# Altium footprint library Analog IC.PcbLib: 26 footprints (part 2 of 2)
Each footprint in its own frame and in the unit in brackets; x right, y up, seen from the top. Pads: shape width x height; smd on the part's side, far side on the other; paste and mask are expansions set on the pad; w line width, h text height; cw(c..) or ccw(c..) is an arc to the next point about the centre after c.
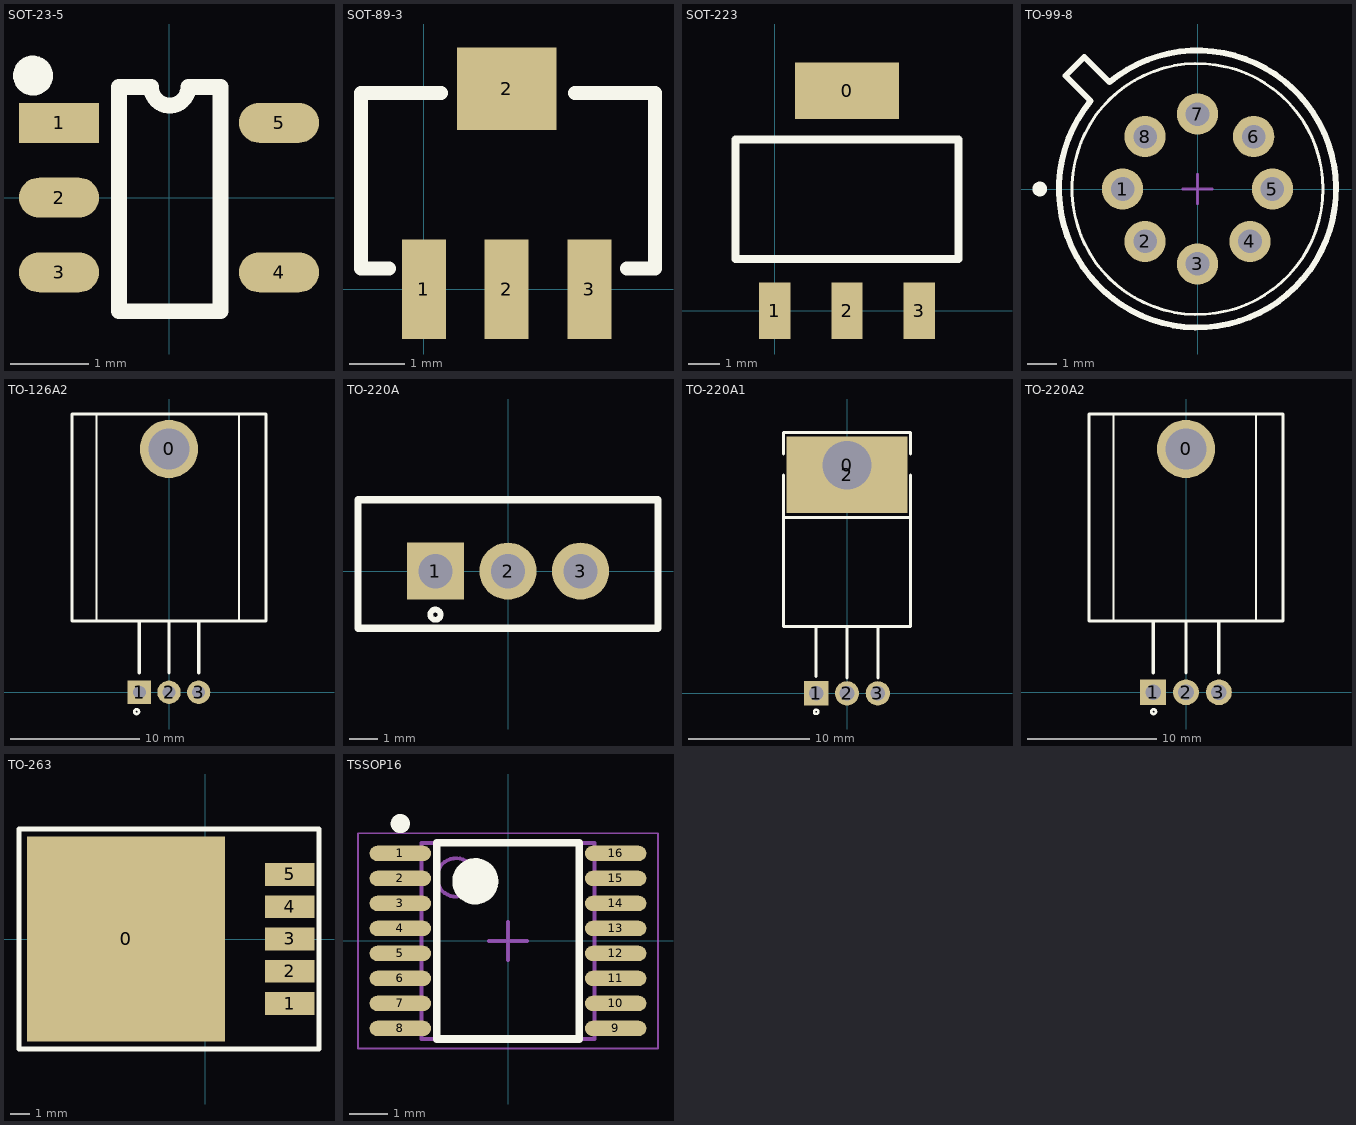
[diagram p1: the footprints below, top view; thin cyan lines are the x and y axes]

## SOT-23-5 [mil]
pads (5):
  rect 40x20 smd: 1(-55,37.4)
  oval 40x20 smd: 2(-55,0) 3(-55,-37.4) 4(55,-37.4) 5(55,37.4)
Top Overlay:
  circle w10: c-68,61 r5
  lines w7.87: -25,55.4 -25,-56.8 25.7,-56.8 25.7,55.4 ; -9,55.4 ccw(c0.35,55.4) 9.7,55.4
  lines w8: -25,55.4 -9,55.4 ; 9.7,55.4 25.7,55.4
3D body: height 42.79, standoff -0.51, extent -55.16,-57.06 55.09,57.09

## SOT-89-3 [mm]
pads (4):
  rect 0.8x1.8 smd: 1(0,0) 2(1.5,0) 3(3,0)
  rect 1.8x1.5 smd: 2(1.5,3.637)
Top Overlay:
  lines w0.254: -0.635,0.381 -1.143,0.381 -1.143,3.556 0.314,3.556 ; 2.734,3.556 4.191,3.556 4.191,0.381 3.683,0.381

## SOT-223 [mm]
pads (4):
  rect 3.3x1.8 smd: 0(2.3,7)
  rect 1x1.8 smd: 1(0,0) 2(2.3,0) 3(4.6,0)
Top Overlay:
  lines w0.254: -1.25,1.645 5.85,1.645 5.85,5.455 -1.25,5.455 -1.25,1.645

## TO-99-8 [mm] "TO-99 8Pin"
height 4.55
pads (8):
  round 1.4 hole 0.8: 1(-2.54,0) 2(-1.778,-1.778) 3(0,-2.54) 4(1.778,-1.778) 5(2.54,0) 6(1.905,1.778) 7(0,2.54) 8(-1.778,1.778)
Top Overlay:
  circle w0.25: c-5.35,0 r0.125
  circle w0.1: c0,0 r4.255
  lines w0.2: -3.626,2.99 -4.475,3.838 -3.838,4.475 -2.99,3.626 ; -3.622,2.987 ccw(c0,0) -2.987,3.622
Mechanical 15:
  lines w0.1: -0.5,0 0.5,0 ; 0,-0.5 0,0.5

## TO-126A2 [mm]
height 4.5
pads (4):
  round 4.5 hole 3.2: 0(0,18.796)
  rect 1.8x1.8 hole 1: 1(-2.29,0)
  round 1.8 hole 1: 2(0,0) 3(2.29,0)
Top Overlay:
  circle w0.2: c-2.5,-1.5 r0.18
  lines w0.152: -5.6,5.6 -5.6,21.5 ; 5.4,5.5 5.4,21.5
  lines w0.254: -2.29,1.5 -2.29,5.5 ; 0,1.5 0,5.5 ; 2.29,1.5 2.29,5.373 ; -7.5,5.5 7.5,5.5 7.5,21.5 -7.5,21.5 -7.5,5.5

## TO-220A [mm]
height 4.5
pads (3):
  rect 2x2 hole 1.2: 1(-2.54,0)
  round 2 hole 1.2: 2(0,0) 3(2.54,0)
Top Overlay:
  circle w0.2: c-2.54,-1.524 r0.18
  lines w0.254: -5.25,-2 -5.25,2.5 5.25,2.5 5.25,-2 -5.25,-2

## TO-220A1 [mm]
height 4.5
pads (5):
  round 4 hole 4: 0(0,18.796)
  rect 2x2 hole 1.2: 1(-2.54,0)
  round 2 hole 1.2: 2(0,0) 3(2.54,0)
  rect 10x6.3 smd: 2(0,18.034)
Top Overlay:
  circle w0.2: c-2.54,-1.524 r0.18
  lines w0.254: -5.25,14.5 5.25,14.5 ; -5.25,18 -5.25,5.5 5.25,5.5 5.25,18 ; -5.25,19.728 -5.25,21.5 5.25,21.5 5.25,19.728 ; -2.54,1.397 -2.54,5.5 ; 0,1.27 0,5.5 ; 2.54,1.27 2.54,5.373

## TO-220A2 [mm]
height 4.5
pads (4):
  round 4.5 hole 3.2: 0(0,18.796)
  rect 2x2 hole 1.2: 1(-2.54,0)
  round 2 hole 1.2: 2(0,0) 3(2.54,0)
Top Overlay:
  circle w0.2: c-2.5,-1.5 r0.18
  lines w0.152: -5.6,5.6 -5.6,21.5 ; 5.4,5.5 5.4,21.5
  lines w0.254: -2.54,1.5 -2.54,5.5 ; 0,1.5 0,5.5 ; 2.54,1.5 2.54,5.373 ; -7.5,5.5 7.5,5.5 7.5,21.5 -7.5,21.5 -7.5,5.5

## TO-263 [mm]
pads (6):
  rect 10.41x10.8 smd: 0(-4.162,0)
  rect 2.6x1.2 smd: 1(4.463,-3.4) 2(4.463,-1.7) 3(4.463,0) 4(4.463,1.7) 5(4.463,3.4)
Top Overlay:
  lines w0.254: -9.8,-5.8 6,-5.8 6,5.8 -9.8,5.8 -9.8,-5.8

## TSSOP16 [mm] "TSOP, 16-Leads, Body 5.00x4.40mm, Pitch 0.65mm, IPC Medium Density"
height 1.2
pads (16):
  oval 1.6x0.4 smd: 1(-2.8,2.275) 2(-2.8,1.625) 3(-2.8,0.975) 4(-2.8,0.325) 5(-2.8,-0.325) 6(-2.8,-0.975) 7(-2.8,-1.625) 8(-2.8,-2.275) 9(2.8,-2.275) 10(2.8,-1.625) 11(2.8,-0.975) 12(2.8,-0.325) 13(2.8,0.325) 14(2.8,0.975) 15(2.8,1.625) 16(2.8,2.275)
Top Overlay:
  circle w0.6: c-0.85,1.55 r0.3
  circle w0.25: c-2.8,3.05 r0.125
  lines w0.2: -1.85,-2.55 1.85,-2.55 1.85,2.55 -1.85,2.55 -1.85,-2.55
Mechanical 13:
  circle w0.1: c-1.35,1.65 r0.5
  lines w0.1: -2.25,-2.55 2.25,-2.55 2.25,2.55 -2.25,2.55 -2.25,-2.55
Mechanical 15:
  lines w0.05: -3.9,-2.8 3.9,-2.8 3.9,2.8 -3.9,2.8 -3.9,-2.8
  lines w0.1: -0.5,0 0.5,0 ; 0,-0.5 0,0.5
3D body: height 1.2, standoff 0.1, extent -2.25,-2.55 2.25,2.55